# Altium integrated library Load_Bank_Switch_New_IntLib.IntLib: 23 symbols
Pins are listed as number, name and electrical type; pins without a type are passive.

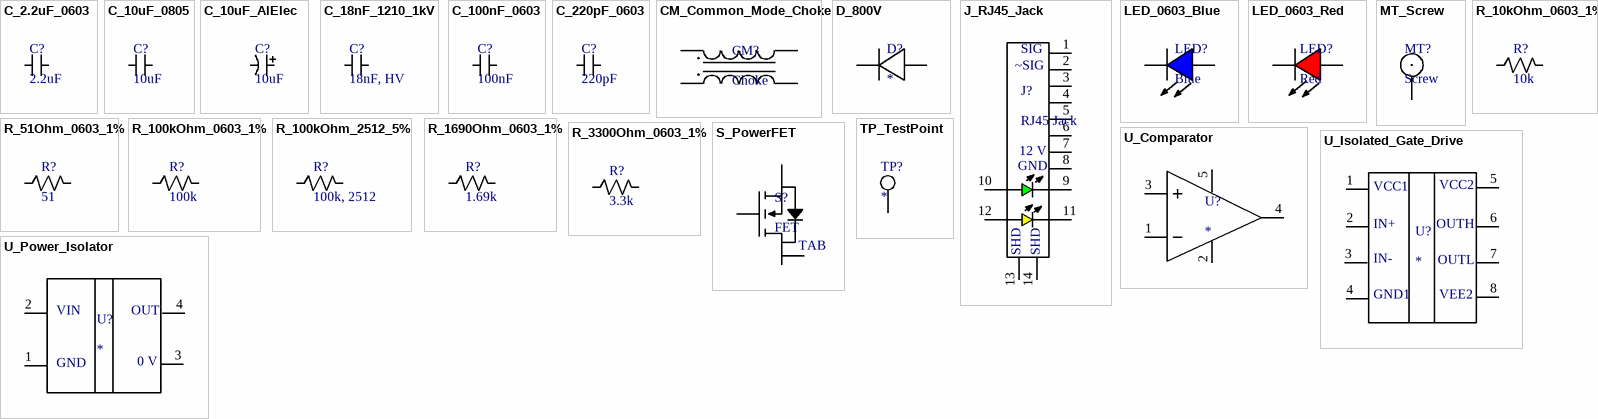
[diagram p0: symbols C_2.2uF_0603 to U_Power_Isolator]

## C_2.2uF_0603
designator C?, comment 2.2uF
Capacitor SMD MLCC 2.2 uF 0603
footprint 0603_CAP (SMD 0603 Capacitor Footprint)
pins: 1, 2

## C_10uF_0805
designator C?, comment 10uF
Capacitor SMD MLCC 10 uF 0805
footprint 0805_CAP (SMD 0805 Capacitor Footprint)
pins: 1, 2

## C_10uF_AlElec
designator C?, comment 10uF
Capacitor SMD Aluminum Electrolytic 10 uF
footprint ALUM_CAP (25 V Aluminum Electrolytic Cap)
pins: 1, 2

## C_18nF_1210_1kV
designator C?, comment 18nF, HV
Capacitor SMD MLCC C0G 18 nF 1 kV 1210
footprint 1210_CAP (1210 SMD Capacitor Footprint)
pins: 1, 2

## C_100nF_0603
designator C?, comment 100nF
Capacitor SMD MLCC 100 nF 0603
footprint 0603_CAP (SMD 0603 Capacitor Footprint)
pins: 1, 2

## C_220pF_0603
designator C?, comment 220pF
Capacitor SMD MLCC 220 pF 0603 5%
footprint 0603_CAP (SMD 0603 Capacitor Footprint)
pins: 1, 2

## CM_Common_Mode_Choke
designator CM?, comment Choke
Common Mode Choke
footprint CHOKE (Common Mode Choke Footprint Horizontal 4)
pins: 1 In1, 2 Out1, 3 Out2, 4 In2

## D_800V
designator D?
Diode 800 V 8 A diode
footprint DIODE (Power Diode Footprint TO-252-2)
pins: 1, 2

## J_RJ45_Jack
designator J?, comment RJ45 Jack
Jack RJ-45 8-pin
footprint RJ45_JACK (RJ45 Jack Footprint)
pins: 1 Sig1, 2 Sig2, 3 NC, 4 NC, 5 NC, 6 NC, 7 12 V, 8 GND, 9   , 10   , 11  , 12  , 13 SHD1, 14 SHD2
text: SIG; ~SIG; SHD

## LED_0603_Blue
designator LED?, comment Blue
LED SMD 0603 Blue
footprint 0603_LED (SMD 0603 LED Footprint)
pins: 1, 2

## LED_0603_Red
designator LED?, comment Red
LED SMD 0603 Red
footprint 0603_LED (SMD 0603 LED Footprint)
pins: 1, 2

## MT_Screw
designator MT?, comment Screw
Screw Mount for connecting board to resistors
footprint MOUNT (Screw Mount Footprint)
pins: 1

## R_10kOhm_0603_1%
designator R?, comment 10k
Resistor 10 kOhm 0603 1%
footprint 0603_RES (SMD 0603 Resistor Footprint)
pins: 1, 2

## R_51Ohm_0603_1%
designator R?, comment 51
Resistor 51 Ohm 0603 1%
footprint 0603_RES (SMD 0603 Resistor Footprint)
pins: 1, 2

## R_100kOhm_0603_1%
designator R?, comment 100k
Resistor 100 kOhm 0603 1%
footprint 0603_RES (SMD 0603 Resistor Footprint)
pins: 1, 2

## R_100kOhm_2512_5%
designator R?, comment 100k, 2512
Resistor 100 kOhm 2512 5%
footprint 2512_RES (2512 Resistor Footprint)
pins: 1, 2

## R_1690Ohm_0603_1%
designator R?, comment 1.69k
Resistor 1.69 kOhm 0603 1%
footprint 0603_RES (SMD 0603 Resistor Footprint)
pins: 1, 2

## R_3300Ohm_0603_1%
designator R?, comment 3.3k
Resistor 3.3 kOhm 0603 1%
footprint 0603_RES (SMD 0603 Resistor Footprint)
pins: 1, 2

## S_PowerFET
designator S?, comment FET
N-Channel Power FET 650 V 24 A
footprint FET (Power FET Footprint)
pins: 1 G, 2 D, 3 S, 4 TAB

## TP_TestPoint
designator TP?
Test Point 0603
footprint 0603_TP (0603 Test Point Footprint)
pins: 1 Sig

## U_Comparator
designator U?
IC Comparator 36 V 300 ns Response Open-Collector
footprint COMPARATOR (Comparator Footprint SOT25)
pins: 1 V-, 2 GND, 3 V+, 4 Out, 5 VDD

## U_Isolated_Gate_Drive
designator U?
IC Isolated Gate Drive 3-15 V Output Supply Split Output
footprint GATE_DRIVER (Isolated Gate Driver Footprint 8-SOIC)
pins: 1 VCC1, 2 IN+, 3 IN-, 4 GND1, 5 VCC2, 6 OUTH, 7 OUTL, 8 VEE2

## U_Power_Isolator
designator U?
IC Power Isolator 12V-12V DC-DC Converter
footprint PWR_ISOLATOR (Power Isolator Footprint)
pins: 1 GND, 2 Vin, 3 0V, 4 Out
text: VIN; OUT; 0 V